# Altium integrated library TS02-66-73-BK-100-SCR-D.IntLib: 1 symbol
Pins are listed as number, name and electrical type; pins without a type are passive.

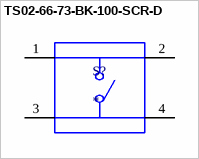
[diagram p0: symbol TS02-66-73-BK-100-SCR-D]

## TS02-66-73-BK-100-SCR-D
designator S?
MF: {'manufacturer': u'CUI'}; MP: TS02-66-73-BK-100-SCR-D; Value: *; Package: None; Availability: Unavailable; Price: None
footprint SW_TS02-66-73-BK-100-SCR-D
pins: 1, 2, 3, 4